# Altium integrated library EEHZA1K470V.IntLib: 1 symbol
Pins are listed as number, name and electrical type; pins without a type are passive.

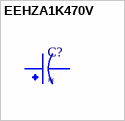
[diagram p0: symbol EEHZA1K470V]

## EEHZA1K470V
designator C?
CAP, 47UF, 80V, ALU ELEC, HYBRID, SMD ROHS COMPLIANT: YES; MF: Panasonic; MP: EEHZA1K470V; Package: None; Price: None; Check_prices: https://www.snapeda.com/parts/EEHZA1K470V/Panasonic/view-part/?ref=eda; Value: *; SnapEDA_Link: https://www.snapeda.com/parts/EEHZA1K470V/Panasonic/view-part/?ref=snap; Availability: In Stock; Purchase-URL: https://pricing.snapeda.com/search?q=EEHZA1K470V&ref=eda
footprint CAP_EEHZA1K470V
pins: 1, 2